# EAGLE library part HDR_1X18 (library sj_connectors)
1x22 - 0.1" Pin Header
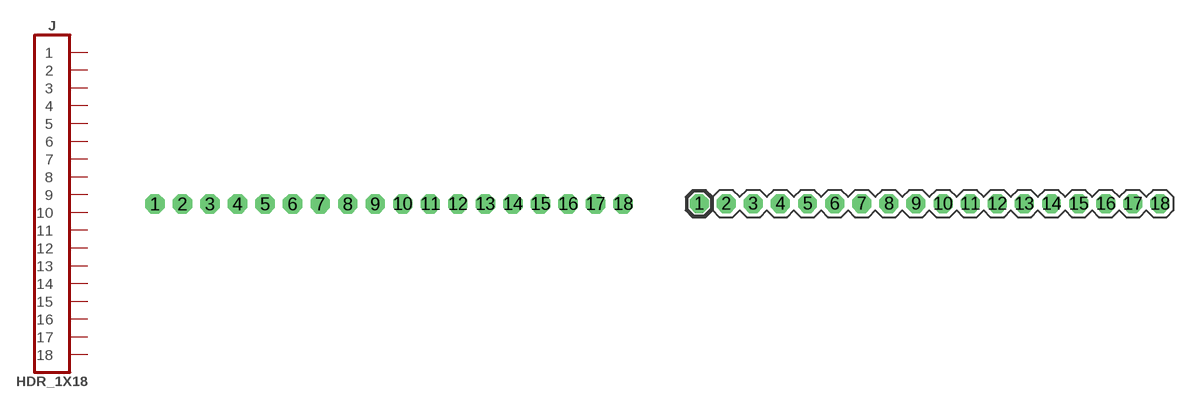
[diagram p12: symbol with the pads of HDR_1X18_NOSILK; footprints HDR_1X18_NOSILK, HDR_1X18]

Designator prefix J

## HDR_1X18_NOSILK  [HDR_1X18_NOSILK]
1  1  pas
2  2  pas
3  3  pas
4  4  pas
5  5  pas
6  6  pas
7  7  pas
8  8  pas
9  9  pas
10  10  pas
11  11  pas
12  12  pas
13  13  pas
14  14  pas
15  15  pas
16  16  pas
17  17  pas
18  18  pas

## HDR_1X18  [HDR_1X18]
Pads as for HDR_1X18_NOSILK

## Footprint HDR_1X18_NOSILK (pad centres in mm)
1x18 - 0.1" Pin Header Package (No Silk)
drill 0.838 pad 1.778 octagon: 1 0,0; 2 2.54,0; 3 5.08,0; 4 7.62,0; 5 10.16,0; 6 12.7,0; 7 15.24,0; 8 17.78,0; 9 20.32,0; 10 22.86,0; 11 25.4,0; 12 27.94,0; 13 30.48,0; 14 33.02,0; 15 35.56,0; 16 38.1,0; 17 40.64,0; 18 43.18,0

## Footprint HDR_1X18 (pad centres in mm)
1x18 - 0.1" Pin Header Package
drill 0.838 pad 1.778 octagon: 1 0,0; 2 2.54,0; 3 5.08,0; 4 7.62,0; 5 10.16,0; 6 12.7,0; 7 15.24,0; 8 17.78,0; 9 20.32,0; 10 22.86,0; 11 25.4,0; 12 27.94,0; 13 30.48,0; 14 33.02,0; 15 35.56,0; 16 38.1,0; 17 40.64,0; 18 43.18,0